# EAGLE library part CON-YAWPI-IN (library various)
Special connector for YAWPI project, board input
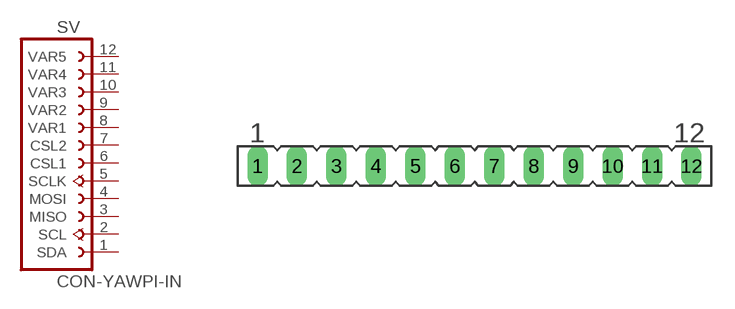
[diagram p3: symbol with the pads of FE12; footprint FE12]

Designator prefix SV

## CON-YAWPI-IN  [FE12]
1  SDA
2  SCL  out
3  MISO  in
4  MOSI  out
5  SCLK  out
6  CSL1  out
7  CSL2  out
8  VAR1
9  VAR2
10  VAR3
11  VAR4
12  VAR5

## Footprint FE12 (pad centres in mm)
FEMALE HEADER
drill 0.813 long: 1 -13.97,0; 2 -11.43,0; 3 -8.89,0; 4 -6.35,0; 5 -3.81,0; 6 -1.27,0; 7 1.27,0; 8 3.81,0; 9 6.35,0; 10 8.89,0; 11 11.43,0; 12 13.97,0